# Altium schematic symbol library U_LM5088.SchLib: 1 symbol
Pins are listed as number, name and electrical type; pins without a type are passive.

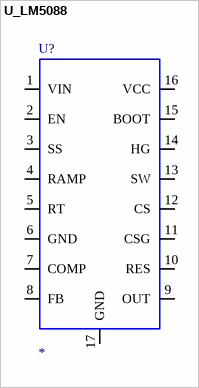
[diagram p0: symbol U_LM5088]

## U_LM5088
designator U?
pins: 1 VIN, 2 EN, 3 SS, 4 RAMP, 5 RT, 6 GND, 7 COMP, 8 FB, 9 OUT, 10 RES, 11 CSG, 12 CS, 13 SW, 14 HG, 15 BOOT, 16 VCC, 17 GND